# Altium integrated library Xilinx CoolRunner II.IntLib: 198 symbols (part 2 of 13)
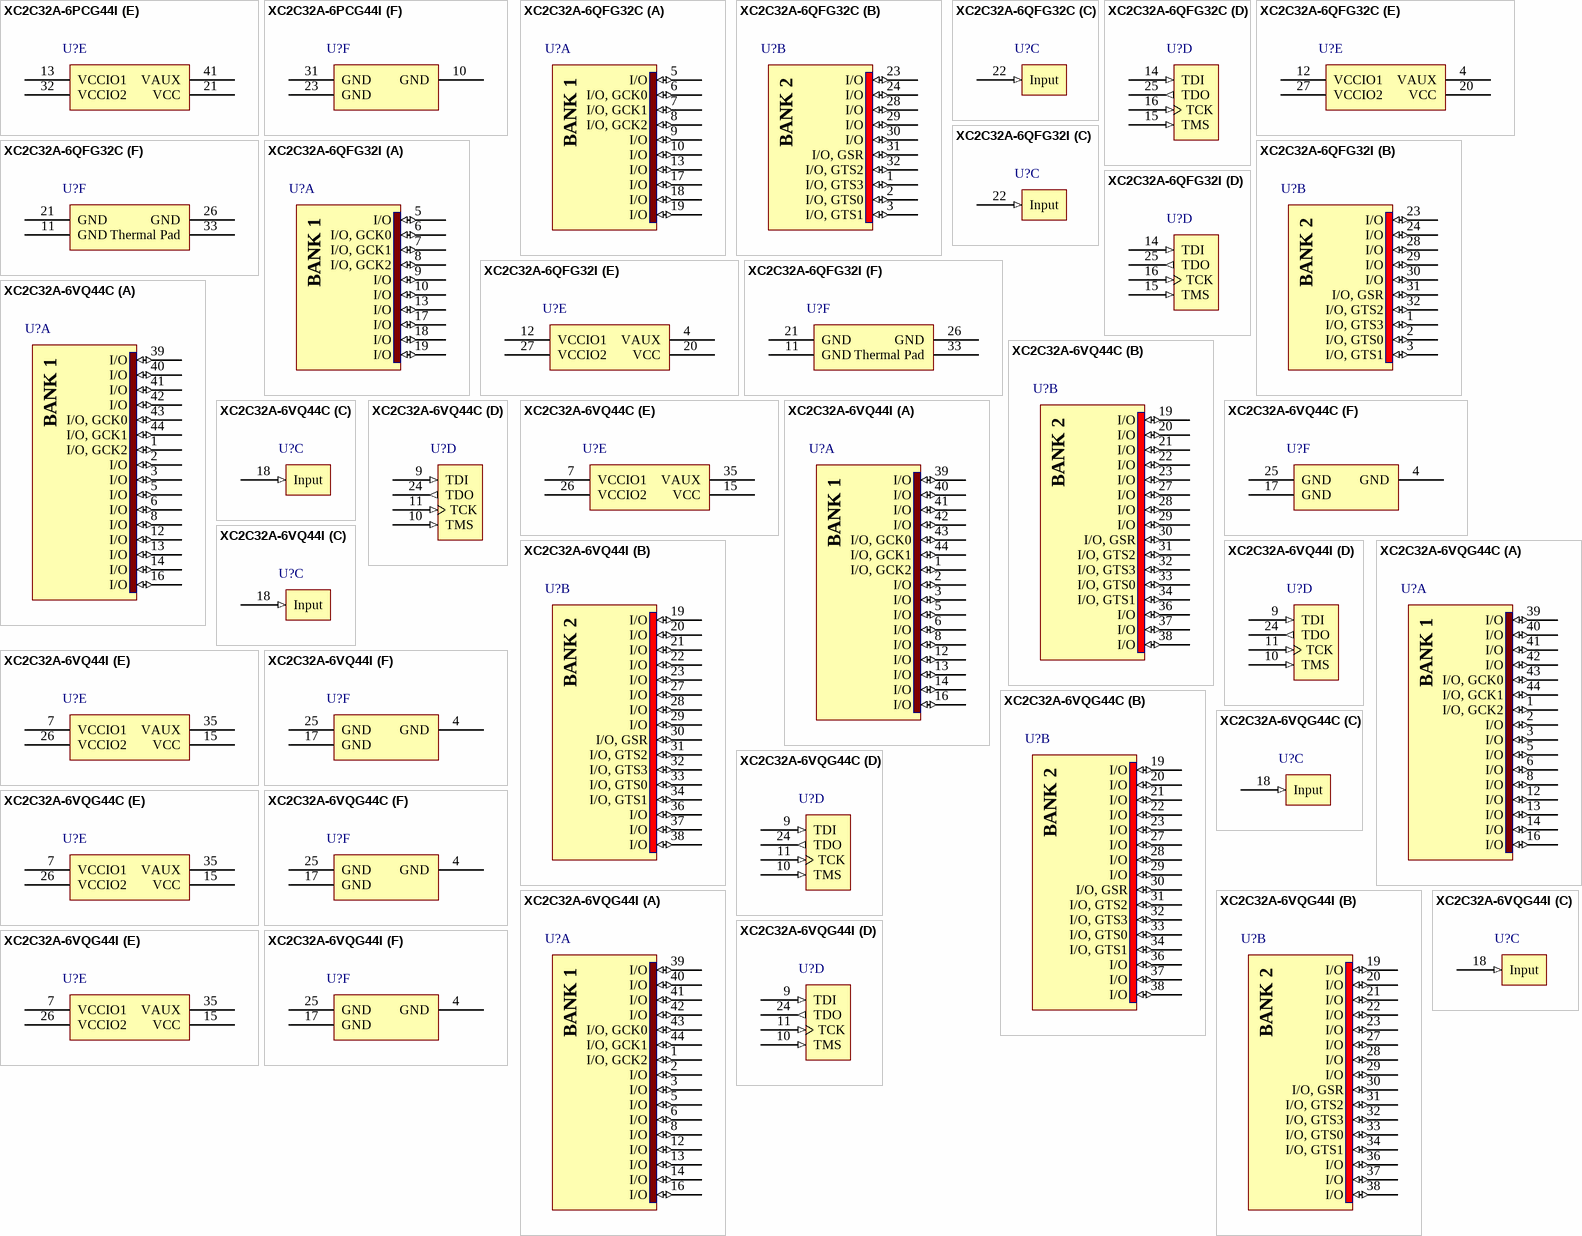
[diagram p70: symbols XC2C32A-6PCG44I to XC2C32A-6VQG44I]

## XC2C32A-6PCG44I
designator U?
CoolRunner-II, 1.8V, 32 Macrocell CPLD, 44-Pin PLCC, Pb-Free, Industrial Grade; Published: 4-Mar-2005; LatestRevisionDate: 13-Apr-2006; LatestRevisionNote: IPC-7351 Footprint Added.; DatasheetVersion: ver2.0, Mar-2007; PackageVersion: ver1.2, Jun-2004; PackageReference: PCG44; Publisher: Altium Limited; PackageDescription: 44-Pin Plastic Leaded Chip Carrier (PCG44) - Pb-Free; Code_JEDEC: MS-047; Code_IPC: PLCC-44; ComponentLink1Description: Manufacturer Link; ComponentLink1URL: http://www.xilinx.com/products/silicon_solutions/cplds/coolrunner_series/coolrunner_ii_cplds/overview.htm; ComponentLink2Description: Datasheet; ComponentLink2URL: http://direct.xilinx.com/bvdocs/publications/ds310.pdf
footprint PCG44_N (Leaded Chip Carrier, 44-Leads, Body 16.6x16.6mm, Pitch 1.27mm, IPC Medium Density)
footprint PCG44_L (Leaded Chip Carrier, 44-Leads, Body 16.6x16.6mm, Pitch 1.27mm, IPC High Density)
footprint PCG44_M (Leaded Chip Carrier, 44-Leads, Body 16.6x16.6mm, Pitch 1.27mm, IPC Low Density)
3D model XC2C32A-PC44 (44-Pin Plastic Leaded Chip Carrier (PCG44) - Pb-Free)
signal-integrity model XC2C32_PC44 (CoolRunner-II)
part A pins: 1 I/O (io), 2 I/O (io), 3 I/O (io), 4 I/O (io), 5 I/O, GCK0 (io), 6 I/O, GCK1 (io), 7 I/O, GCK2 (io), 8 I/O (io), 9 I/O (io), 11 I/O (io), 12 I/O (io), 14 I/O (io), 18 I/O (io), 19 I/O (io), 20 I/O (io), 22 I/O (io)
part B pins: 25 I/O (io), 26 I/O (io), 27 I/O (io), 28 I/O (io), 29 I/O (io), 33 I/O (io), 34 I/O (io), 35 I/O (io), 36 I/O, GSR (io), 37 I/O, GTS2 (io), 38 I/O, GTS3 (io), 39 I/O, GTS0 (io), 40 I/O, GTS1 (io), 42 I/O (io), 43 I/O (io), 44 I/O (io)
part C pins: 24 Input (in)
part D pins: 15 TDI (in), 16 TMS (in), 17 TCK (in), 30 TDO (out)
part E pins: 13 VCCIO1 (power), 21 VCC (power), 32 VCCIO2 (power), 41 VAUX (power)
part F pins: 10 GND (power), 23 GND (power), 31 GND (power)
part A text: BANK 1
part B text: BANK 2

## XC2C32A-6QFG32C
designator U?
CoolRunner-II, 1.8V, 32 Macrocell CPLD, 32-Pin QFNL, Pb-Free, Commercial Grade; Published: 8-Jul-2005; LatestRevisionDate: 13-Apr-2006; LatestRevisionNote: Added Thermal Pad pin. IPC-7351 Footprint Added.; DatasheetVersion: ver2.0, Mar-2007; PackageVersion: ver1.0, Aug-2004; PackageReference: QFG32; Publisher: Altium Limited; PackageDescription: 32-Pin Quad Flat No-Lead (QFG32) - Pb-Free; Code_JEDEC: MO-220; ComponentLink1Description: Manufacturer Link; ComponentLink1URL: http://www.xilinx.com/products/silicon_solutions/cplds/coolrunner_series/coolrunner_ii_cplds/overview.htm; ComponentLink2Description: Datasheet; ComponentLink2URL: http://direct.xilinx.com/bvdocs/publications/ds310.pdf
footprint QFG32_N (QFN, 32-Leads, Body 5x5mm, Pitch 0.5mm, IPC Medium Density)
footprint QFG32_L (QFN, 32-Leads, Body 5x5mm, Pitch 0.5mm, IPC High Density)
footprint QFG32_M (QFN, 32-Leads, Body 5x5mm, Pitch 0.5mm, IPC Low Density)
signal-integrity model XC2C32_QF32 (CoolRunner-II)
part A pins: 5 I/O (io), 6 I/O, GCK0 (io), 7 I/O, GCK1 (io), 8 I/O, GCK2 (io), 9 I/O (io), 10 I/O (io), 13 I/O (io), 17 I/O (io), 18 I/O (io), 19 I/O (io)
part B pins: 1 I/O, GTS3 (io), 2 I/O, GTS0 (io), 3 I/O, GTS1 (io), 23 I/O (io), 24 I/O (io), 28 I/O (io), 29 I/O (io), 30 I/O (io), 31 I/O, GSR (io), 32 I/O, GTS2 (io)
part C pins: 22 Input (in)
part D pins: 14 TDI (in), 15 TMS (in), 16 TCK (in), 25 TDO (out)
part E pins: 4 VAUX (power), 12 VCCIO1 (power), 20 VCC (power), 27 VCCIO2 (power)
part F pins: 11 GND (power), 21 GND (power), 26 GND (power), 33 Thermal Pad (power)
part A text: BANK 1
part B text: BANK 2

## XC2C32A-6QFG32I
designator U?
CoolRunner-II, 1.8V, 32 Macrocell CPLD, 32-Pin QFNL, Pb-Free, Industrial Grade; Published: 8-Jul-2005; LatestRevisionDate: 13-Apr-2006; LatestRevisionNote: Added Thermal Pad pin. IPC-7351 Footprint Added.; DatasheetVersion: ver2.0, Mar-2007; PackageVersion: ver1.0, Aug-2004; PackageReference: QFG32; Publisher: Altium Limited; PackageDescription: 32-Pin Quad Flat No-Lead (QFG32) - Pb-Free; Code_JEDEC: MO-220; ComponentLink1Description: Manufacturer Link; ComponentLink1URL: http://www.xilinx.com/products/silicon_solutions/cplds/coolrunner_series/coolrunner_ii_cplds/overview.htm; ComponentLink2Description: Datasheet; ComponentLink2URL: http://direct.xilinx.com/bvdocs/publications/ds310.pdf
footprint QFG32_N (QFN, 32-Leads, Body 5x5mm, Pitch 0.5mm, IPC Medium Density)
footprint QFG32_L (QFN, 32-Leads, Body 5x5mm, Pitch 0.5mm, IPC High Density)
footprint QFG32_M (QFN, 32-Leads, Body 5x5mm, Pitch 0.5mm, IPC Low Density)
signal-integrity model XC2C32_QF32 (CoolRunner-II)
part A pins: 5 I/O (io), 6 I/O, GCK0 (io), 7 I/O, GCK1 (io), 8 I/O, GCK2 (io), 9 I/O (io), 10 I/O (io), 13 I/O (io), 17 I/O (io), 18 I/O (io), 19 I/O (io)
part B pins: 1 I/O, GTS3 (io), 2 I/O, GTS0 (io), 3 I/O, GTS1 (io), 23 I/O (io), 24 I/O (io), 28 I/O (io), 29 I/O (io), 30 I/O (io), 31 I/O, GSR (io), 32 I/O, GTS2 (io)
part C pins: 22 Input (in)
part D pins: 14 TDI (in), 15 TMS (in), 16 TCK (in), 25 TDO (out)
part E pins: 4 VAUX (power), 12 VCCIO1 (power), 20 VCC (power), 27 VCCIO2 (power)
part F pins: 11 GND (power), 21 GND (power), 26 GND (power), 33 Thermal Pad (power)
part A text: BANK 1
part B text: BANK 2

## XC2C32A-6VQ44C
designator U?
CoolRunner-II, 1.8V, 32 Macrocell CPLD, 44-Pin VQFP, Commercial Grade; Published: 4-Mar-2005; LatestRevisionDate: 13-Apr-2006; LatestRevisionNote: IPC-7351 Footprint Added.; DatasheetVersion: ver2.0, Mar-2007; PackageVersion: ver1.2, Jun-2004; PackageReference: VQ44; Publisher: Altium Limited; PackageDescription: 44-Pin Very Thin Quad Flat Pack (VQ44); Code_JEDEC: MS-026-ACB; ComponentLink1Description: Manufacturer Link; ComponentLink1URL: http://www.xilinx.com/products/silicon_solutions/cplds/coolrunner_series/coolrunner_ii_cplds/overview.htm; ComponentLink2Description: Datasheet; ComponentLink2URL: http://direct.xilinx.com/bvdocs/publications/ds310.pdf
footprint VQ44_N (Thin QFP, 44-Leads, Body 10x10mm, Pitch 0.8mm, IPC Medium Density)
footprint VQ44_L (Thin QFP, 44-Leads, Body 10x10mm, Pitch 0.8mm, IPC High Density)
footprint VQ44_M (Thin QFP, 44-Leads, Body 10x10mm, Pitch 0.8mm, IPC Low Density)
3D model XC2C32A-VQ44 (44-Pin Very Thin Quad Flat Pack (VQ44))
signal-integrity model XC2C32_VQ44 (CoolRunner-II)
part A pins: 1 I/O, GCK2 (io), 2 I/O (io), 3 I/O (io), 5 I/O (io), 6 I/O (io), 8 I/O (io), 12 I/O (io), 13 I/O (io), 14 I/O (io), 16 I/O (io), 39 I/O (io), 40 I/O (io), 41 I/O (io), 42 I/O (io), 43 I/O, GCK0 (io), 44 I/O, GCK1 (io)
part B pins: 19 I/O (io), 20 I/O (io), 21 I/O (io), 22 I/O (io), 23 I/O (io), 27 I/O (io), 28 I/O (io), 29 I/O (io), 30 I/O, GSR (io), 31 I/O, GTS2 (io), 32 I/O, GTS3 (io), 33 I/O, GTS0 (io), 34 I/O, GTS1 (io), 36 I/O (io), 37 I/O (io), 38 I/O (io)
part C pins: 18 Input (in)
part D pins: 9 TDI (in), 10 TMS (in), 11 TCK (in), 24 TDO (out)
part E pins: 7 VCCIO1 (power), 15 VCC (power), 26 VCCIO2 (power), 35 VAUX (power)
part F pins: 4 GND (power), 17 GND (power), 25 GND (power)
part A text: BANK 1
part B text: BANK 2

## XC2C32A-6VQ44I
designator U?
CoolRunner-II, 1.8V, 32 Macrocell CPLD, 44-Pin VQFP, Industrial Grade; Published: 4-Mar-2005; LatestRevisionDate: 13-Apr-2006; LatestRevisionNote: IPC-7351 Footprint Added.; DatasheetVersion: ver2.0, Mar-2007; PackageVersion: ver1.2, Jun-2004; PackageReference: VQ44; Publisher: Altium Limited; PackageDescription: 44-Pin Very Thin Quad Flat Pack (VQ44); Code_JEDEC: MS-026-ACB; ComponentLink1Description: Manufacturer Link; ComponentLink1URL: http://www.xilinx.com/products/silicon_solutions/cplds/coolrunner_series/coolrunner_ii_cplds/overview.htm; ComponentLink2Description: Datasheet; ComponentLink2URL: http://direct.xilinx.com/bvdocs/publications/ds310.pdf
footprint VQ44_N (Thin QFP, 44-Leads, Body 10x10mm, Pitch 0.8mm, IPC Medium Density)
footprint VQ44_L (Thin QFP, 44-Leads, Body 10x10mm, Pitch 0.8mm, IPC High Density)
footprint VQ44_M (Thin QFP, 44-Leads, Body 10x10mm, Pitch 0.8mm, IPC Low Density)
3D model XC2C32A-VQ44 (44-Pin Very Thin Quad Flat Pack (VQ44))
signal-integrity model XC2C32_VQ44 (CoolRunner-II)
part A pins: 1 I/O, GCK2 (io), 2 I/O (io), 3 I/O (io), 5 I/O (io), 6 I/O (io), 8 I/O (io), 12 I/O (io), 13 I/O (io), 14 I/O (io), 16 I/O (io), 39 I/O (io), 40 I/O (io), 41 I/O (io), 42 I/O (io), 43 I/O, GCK0 (io), 44 I/O, GCK1 (io)
part B pins: 19 I/O (io), 20 I/O (io), 21 I/O (io), 22 I/O (io), 23 I/O (io), 27 I/O (io), 28 I/O (io), 29 I/O (io), 30 I/O, GSR (io), 31 I/O, GTS2 (io), 32 I/O, GTS3 (io), 33 I/O, GTS0 (io), 34 I/O, GTS1 (io), 36 I/O (io), 37 I/O (io), 38 I/O (io)
part C pins: 18 Input (in)
part D pins: 9 TDI (in), 10 TMS (in), 11 TCK (in), 24 TDO (out)
part E pins: 7 VCCIO1 (power), 15 VCC (power), 26 VCCIO2 (power), 35 VAUX (power)
part F pins: 4 GND (power), 17 GND (power), 25 GND (power)
part A text: BANK 1
part B text: BANK 2

## XC2C32A-6VQG44C
designator U?
CoolRunner-II, 1.8V, 32 Macrocell CPLD, 44-Pin VQFP, Pb-Free, Commercial Grade; Published: 4-Mar-2005; LatestRevisionDate: 13-Apr-2006; LatestRevisionNote: IPC-7351 Footprint Added.; DatasheetVersion: ver2.0, Mar-2007; PackageVersion: ver1.2, Jun-2004; PackageReference: VQG44; Publisher: Altium Limited; PackageDescription: 44-Pin Very Thin Quad Flat Pack (VQG44) - Pb-Free; Code_JEDEC: MS-026-ACB; ComponentLink1Description: Manufacturer Link; ComponentLink1URL: http://www.xilinx.com/products/silicon_solutions/cplds/coolrunner_series/coolrunner_ii_cplds/overview.htm; ComponentLink2Description: Datasheet; ComponentLink2URL: http://direct.xilinx.com/bvdocs/publications/ds310.pdf
footprint VQG44_N (Thin QFP, 44-Leads, Body 10x10mm, Pitch 0.8mm, IPC Medium Density)
footprint VQG44_L (Thin QFP, 44-Leads, Body 10x10mm, Pitch 0.8mm, IPC High Density)
footprint VQG44_M (Thin QFP, 44-Leads, Body 10x10mm, Pitch 0.8mm, IPC Low Density)
3D model XC2C32A-VQ44 (44-Pin Very Thin Quad Flat Pack (VQG44) - Pb-Free)
signal-integrity model XC2C32_VQ44 (CoolRunner-II)
part A pins: 1 I/O, GCK2 (io), 2 I/O (io), 3 I/O (io), 5 I/O (io), 6 I/O (io), 8 I/O (io), 12 I/O (io), 13 I/O (io), 14 I/O (io), 16 I/O (io), 39 I/O (io), 40 I/O (io), 41 I/O (io), 42 I/O (io), 43 I/O, GCK0 (io), 44 I/O, GCK1 (io)
part B pins: 19 I/O (io), 20 I/O (io), 21 I/O (io), 22 I/O (io), 23 I/O (io), 27 I/O (io), 28 I/O (io), 29 I/O (io), 30 I/O, GSR (io), 31 I/O, GTS2 (io), 32 I/O, GTS3 (io), 33 I/O, GTS0 (io), 34 I/O, GTS1 (io), 36 I/O (io), 37 I/O (io), 38 I/O (io)
part C pins: 18 Input (in)
part D pins: 9 TDI (in), 10 TMS (in), 11 TCK (in), 24 TDO (out)
part E pins: 7 VCCIO1 (power), 15 VCC (power), 26 VCCIO2 (power), 35 VAUX (power)
part F pins: 4 GND (power), 17 GND (power), 25 GND (power)
part A text: BANK 1
part B text: BANK 2

## XC2C32A-6VQG44I
designator U?
CoolRunner-II, 1.8V, 32 Macrocell CPLD, 44-Pin VQFP, Pb-Free, Industrial Grade; Published: 4-Mar-2005; LatestRevisionDate: 13-Apr-2006; LatestRevisionNote: IPC-7351 Footprint Added.; DatasheetVersion: ver2.0, Mar-2007; PackageVersion: ver1.2, Jun-2004; PackageReference: VQG44; Publisher: Altium Limited; PackageDescription: 44-Pin Very Thin Quad Flat Pack (VQG44) - Pb-Free; Code_JEDEC: MS-026-ACB; ComponentLink1Description: Manufacturer Link; ComponentLink1URL: http://www.xilinx.com/products/silicon_solutions/cplds/coolrunner_series/coolrunner_ii_cplds/overview.htm; ComponentLink2Description: Datasheet; ComponentLink2URL: http://direct.xilinx.com/bvdocs/publications/ds310.pdf
footprint VQG44_N (Thin QFP, 44-Leads, Body 10x10mm, Pitch 0.8mm, IPC Medium Density)
footprint VQG44_L (Thin QFP, 44-Leads, Body 10x10mm, Pitch 0.8mm, IPC High Density)
footprint VQG44_M (Thin QFP, 44-Leads, Body 10x10mm, Pitch 0.8mm, IPC Low Density)
3D model XC2C32A-VQ44 (44-Pin Very Thin Quad Flat Pack (VQG44) - Pb-Free)
signal-integrity model XC2C32_VQ44 (CoolRunner-II)
part A pins: 1 I/O, GCK2 (io), 2 I/O (io), 3 I/O (io), 5 I/O (io), 6 I/O (io), 8 I/O (io), 12 I/O (io), 13 I/O (io), 14 I/O (io), 16 I/O (io), 39 I/O (io), 40 I/O (io), 41 I/O (io), 42 I/O (io), 43 I/O, GCK0 (io), 44 I/O, GCK1 (io)
part B pins: 19 I/O (io), 20 I/O (io), 21 I/O (io), 22 I/O (io), 23 I/O (io), 27 I/O (io), 28 I/O (io), 29 I/O (io), 30 I/O, GSR (io), 31 I/O, GTS2 (io), 32 I/O, GTS3 (io), 33 I/O, GTS0 (io), 34 I/O, GTS1 (io), 36 I/O (io), 37 I/O (io), 38 I/O (io)
part C pins: 18 Input (in)
part D pins: 9 TDI (in), 10 TMS (in), 11 TCK (in), 24 TDO (out)
part E pins: 7 VCCIO1 (power), 15 VCC (power), 26 VCCIO2 (power), 35 VAUX (power)
part F pins: 4 GND (power), 17 GND (power), 25 GND (power)
part A text: BANK 1
part B text: BANK 2

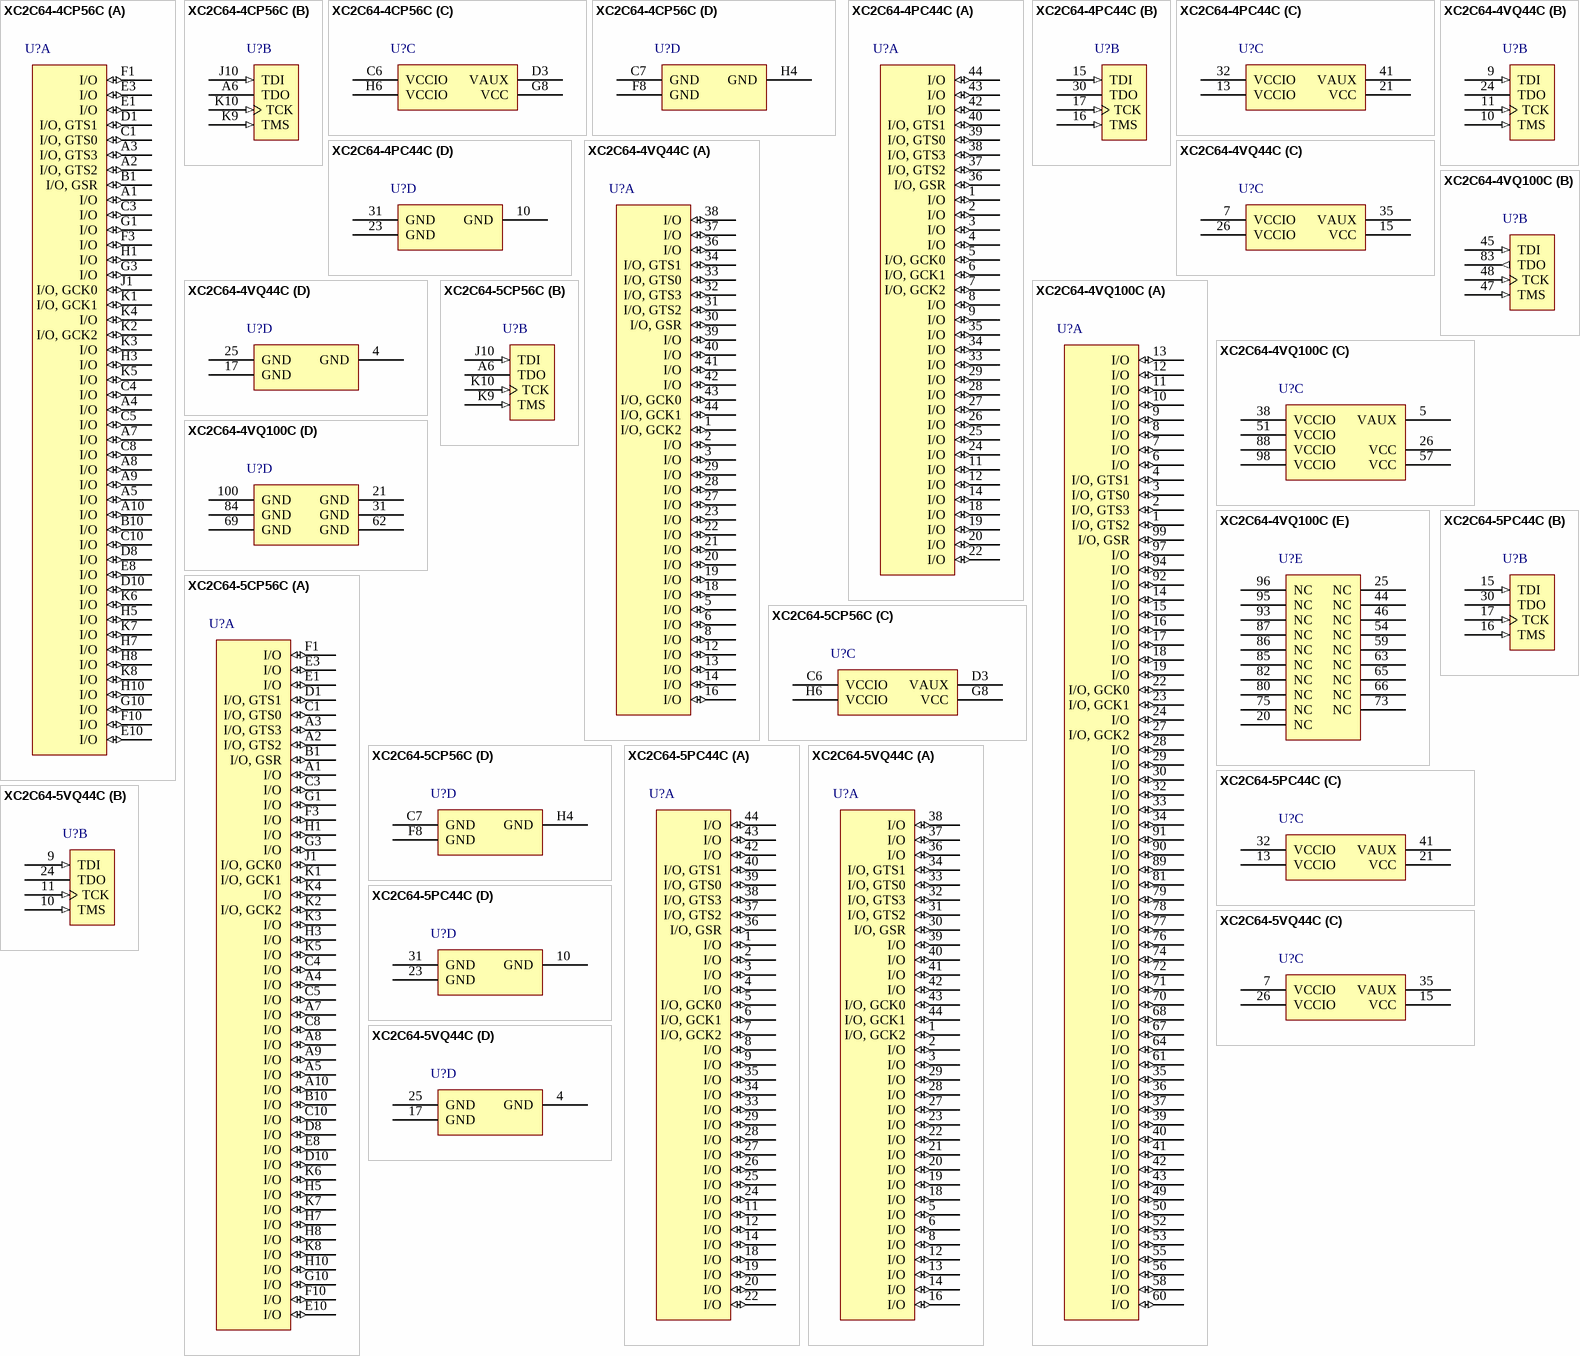
[diagram p5: symbols XC2C64-4CP56C to XC2C64-5VQ44C]

## XC2C64-4CP56C
designator U?
CoolRunner-II, 1.8V, 64 Macrocell CPLD, 56-Ball CSP, Commercial Grade; ComponentAvailability: Not referenced in latest datasheet.; Published: 23-Sep-2002; LatestRevisionDate: 13-Apr-2006; LatestRevisionNote: IPC-7351 Footprint Added.; DatasheetVersion: ver1.5, Jan-2004; PackageVersion: ver1.2, Jun-2004; PackageReference: CP56; Publisher: Altium Limited; PackageDescription: 56-Ball Chip Scale Ball Grid Array 0.5 mm Pitch (CP56); ComponentLink1Description: Manufacturer Link; ComponentLink1URL: http://www.xilinx.com/products/silicon_solutions/cplds/coolrunner_series/coolrunner_ii_cplds/overview.htm; ComponentLink2Description: Datasheet; ComponentLink2URL: http://direct.xilinx.com/bvdocs/publications/ds092.pdf; ComponentLink3Description: Discontinuation Notice; ComponentLink3URL: http://www.xilinx.com/bvdocs/notifications/xcn05017.pdf
footprint CP56 (BGA, 56-Leads, Body 6x6mm, Pitch 0.5mm)
3D model XC2C64-CP56 (56-Ball Chip Scale Ball Grid Array 0.5 mm Pitch (CP56))
signal-integrity model XC2C64_CP56 (CoolRunner-II)
part A pins: A1 I/O (io), A2 I/O, GTS2 (io), A3 I/O, GTS3 (io), A4 I/O (io), A5 I/O (io), A7 I/O (io), A8 I/O (io), A9 I/O (io), A10 I/O (io), B1 I/O, GSR (io), B10 I/O (io), C1 I/O, GTS0 (io), C3 I/O (io), C4 I/O (io), C5 I/O (io), C8 I/O (io), C10 I/O (io), D1 I/O, GTS1 (io), D8 I/O (io), D10 I/O (io), E1 I/O (io), E3 I/O (io), E8 I/O (io), E10 I/O (io), F1 I/O (io), F3 I/O (io), F10 I/O (io), G1 I/O (io), G3 I/O (io), G10 I/O (io), H1 I/O (io), H3 I/O (io), H5 I/O (io), H7 I/O (io), H8 I/O (io), H10 I/O (io), J1 I/O, GCK0 (io), K1 I/O, GCK1 (io), K2 I/O, GCK2 (io), K3 I/O (io), K4 I/O (io), K5 I/O (io), K6 I/O (io), K7 I/O (io), K8 I/O (io)
part B pins: A6 TDO, J10 TDI (in), K9 TMS (in), K10 TCK (in)
part C pins: C6 VCCIO (power), D3 VAUX (power), G8 VCC (power), H6 VCCIO (power)
part D pins: C7 GND (power), F8 GND (power), H4 GND (power)

## XC2C64-4PC44C
designator U?
CoolRunner-II, 1.8V, 64 Macrocell CPLD, 44-Pin PLCC, Commercial Grade; ComponentAvailability: Not referenced in latest datasheet.; Published: 23-Sep-2002; LatestRevisionDate: 13-Apr-2006; LatestRevisionNote: IPC-7351 Footprint Added.; DatasheetVersion: ver1.5, Jan-2004; PackageVersion: ver1.2, Jun-2004; PackageReference: PC44; Publisher: Altium Limited; PackageDescription: 44-Pin Plastic Leaded Chip Carrier (PC44); Code_JEDEC: MS-047; Code_IPC: PLCC-44; ComponentLink1Description: Manufacturer Link; ComponentLink1URL: http://www.xilinx.com/products/silicon_solutions/cplds/coolrunner_series/coolrunner_ii_cplds/overview.htm; ComponentLink2Description: Datasheet; ComponentLink2URL: http://direct.xilinx.com/bvdocs/publications/ds092.pdf; ComponentLink3Description: Discontinuation Notice; ComponentLink3URL: http://www.xilinx.com/bvdocs/notifications/xcn05017.pdf
footprint PC44_N (Leaded Chip Carrier, 44-Leads, Body 16.6x16.6mm, Pitch 1.27mm, IPC Medium Density)
footprint PC44_L (Leaded Chip Carrier, 44-Leads, Body 16.6x16.6mm, Pitch 1.27mm, IPC High Density)
footprint PC44_M (Leaded Chip Carrier, 44-Leads, Body 16.6x16.6mm, Pitch 1.27mm, IPC Low Density)
3D model XC2C64-PC44 (44-Pin Plastic Leaded Chip Carrier (PC44))
signal-integrity model XC2C64_PC44 (CoolRunner-II)
part A pins: 1 I/O (io), 2 I/O (io), 3 I/O (io), 4 I/O (io), 5 I/O, GCK0 (io), 6 I/O, GCK1 (io), 7 I/O, GCK2 (io), 8 I/O (io), 9 I/O (io), 11 I/O (io), 12 I/O (io), 14 I/O (io), 18 I/O (io), 19 I/O (io), 20 I/O (io), 22 I/O (io), 24 I/O (io), 25 I/O (io), 26 I/O (io), 27 I/O (io), 28 I/O (io), 29 I/O (io), 33 I/O (io), 34 I/O (io), 35 I/O (io), 36 I/O, GSR (io), 37 I/O, GTS2 (io), 38 I/O, GTS3 (io), 39 I/O, GTS0 (io), 40 I/O, GTS1 (io), 42 I/O (io), 43 I/O (io), 44 I/O (io)
part B pins: 15 TDI (in), 16 TMS (in), 17 TCK (in), 30 TDO
part C pins: 13 VCCIO (power), 21 VCC (power), 32 VCCIO (power), 41 VAUX (power)
part D pins: 10 GND (power), 23 GND (power), 31 GND (power)

## XC2C64-4VQ44C
designator U?
CoolRunner-II, 1.8V, 64 Macrocell CPLD, 44-Pin VQFP, Commercial Grade; ComponentAvailability: Not referenced in latest datasheet.; Published: 23-Sep-2002; LatestRevisionDate: 13-Apr-2006; LatestRevisionNote: IPC-7351 Footprint Added.; DatasheetVersion: ver1.5, Jan-2004; PackageVersion: ver1.2, Jun-2004; PackageReference: VQ44; Publisher: Altium Limited; PackageDescription: 44-Pin Very Thin Quad Flat Pack (VQ44); Code_JEDEC: MS-026-ACB; ComponentLink1Description: Manufacturer Link; ComponentLink1URL: http://www.xilinx.com/products/silicon_solutions/cplds/coolrunner_series/coolrunner_ii_cplds/overview.htm; ComponentLink2Description: Datasheet; ComponentLink2URL: http://direct.xilinx.com/bvdocs/publications/ds092.pdf; ComponentLink3Description: Discontinuation Notice; ComponentLink3URL: http://www.xilinx.com/bvdocs/notifications/xcn05017.pdf
footprint VQ44_N (Thin QFP, 44-Leads, Body 10x10mm, Pitch 0.8mm, IPC Medium Density)
footprint VQ44_L (Thin QFP, 44-Leads, Body 10x10mm, Pitch 0.8mm, IPC High Density)
footprint VQ44_M (Thin QFP, 44-Leads, Body 10x10mm, Pitch 0.8mm, IPC Low Density)
3D model XC2C64-VQ44 (44-Pin Very Thin Quad Flat Pack (VQ44))
signal-integrity model XC2C64_VQ44 (CoolRunner-II)
part A pins: 1 I/O, GCK2 (io), 2 I/O (io), 3 I/O (io), 5 I/O (io), 6 I/O (io), 8 I/O (io), 12 I/O (io), 13 I/O (io), 14 I/O (io), 16 I/O (io), 18 I/O (io), 19 I/O (io), 20 I/O (io), 21 I/O (io), 22 I/O (io), 23 I/O (io), 27 I/O (io), 28 I/O (io), 29 I/O (io), 30 I/O, GSR (io), 31 I/O, GTS2 (io), 32 I/O, GTS3 (io), 33 I/O, GTS0 (io), 34 I/O, GTS1 (io), 36 I/O (io), 37 I/O (io), 38 I/O (io), 39 I/O (io), 40 I/O (io), 41 I/O (io), 42 I/O (io), 43 I/O, GCK0 (io), 44 I/O, GCK1 (io)
part B pins: 9 TDI (in), 10 TMS (in), 11 TCK (in), 24 TDO
part C pins: 7 VCCIO (power), 15 VCC (power), 26 VCCIO (power), 35 VAUX (power)
part D pins: 4 GND (power), 17 GND (power), 25 GND (power)

## XC2C64-4VQ100C
designator U?
CoolRunner-II, 1.8V, 64 Macrocell CPLD, 100-Pin VQFP, Commercial Grade; ComponentAvailability: Not referenced in latest datasheet.; Published: 23-Sep-2002; LatestRevisionDate: 13-Apr-2006; LatestRevisionNote: IPC-7351 Footprint Added.; DatasheetVersion: ver1.5, Jan-2004; PackageVersion: ver1.2.1, Feb-2007; PackageReference: VQ100; Publisher: Altium Limited; PackageDescription: 100-Pin Very Thin Quad Flat Pack (VQ100); Code_JEDEC: MS-026-AED; ComponentLink1Description: Manufacturer Link; ComponentLink1URL: http://www.xilinx.com/products/silicon_solutions/cplds/coolrunner_series/coolrunner_ii_cplds/overview.htm; ComponentLink2Description: Datasheet; ComponentLink2URL: http://direct.xilinx.com/bvdocs/publications/ds092.pdf; ComponentLink3Description: Discontinuation Notice; ComponentLink3URL: http://www.xilinx.com/bvdocs/notifications/xcn05017.pdf
footprint VQ100_N (Thin QFP, 100-Leads, Body 14x14mm, Pitch 0.5mm, IPC Medium Density)
footprint VQ100_L (Thin QFP, 100-Leads, Body 14x14mm, Pitch 0.5mm, IPC High Density)
footprint VQ100_M (Thin QFP, 100-Leads, Body 14x14mm, Pitch 0.5mm, IPC Low Density)
3D model XC2C64-VQ100 (100-Pin Very Thin Quad Flat Pack (VQ100))
signal-integrity model XC2C64_VQ100 (CoolRunner-II)
part A pins: 1 I/O, GTS2 (io), 2 I/O, GTS3 (io), 3 I/O, GTS0 (io), 4 I/O, GTS1 (io), 6 I/O (io), 7 I/O (io), 8 I/O (io), 9 I/O (io), 10 I/O (io), 11 I/O (io), 12 I/O (io), 13 I/O (io), 14 I/O (io), 15 I/O (io), 16 I/O (io), 17 I/O (io), 18 I/O (io), 19 I/O (io), 22 I/O, GCK0 (io), 23 I/O, GCK1 (io), 24 I/O (io), 27 I/O, GCK2 (io), 28 I/O (io), 29 I/O (io), 30 I/O (io), 32 I/O (io), 33 I/O (io), 34 I/O (io), 35 I/O (io), 36 I/O (io), 37 I/O (io), 39 I/O (io), 40 I/O (io), 41 I/O (io), 42 I/O (io), 43 I/O (io), 49 I/O (io), 50 I/O (io), 52 I/O (io), 53 I/O (io), 55 I/O (io), 56 I/O (io), 58 I/O (io), 60 I/O (io), 61 I/O (io), 64 I/O (io), 67 I/O (io), 68 I/O (io), 70 I/O (io), 71 I/O (io), 72 I/O (io), 74 I/O (io), 76 I/O (io), 77 I/O (io), 78 I/O (io), 79 I/O (io), 81 I/O (io), 89 I/O (io), 90 I/O (io), 91 I/O (io), 92 I/O (io), 94 I/O (io), 97 I/O (io), 99 I/O, GSR (io)
part B pins: 45 TDI (in), 47 TMS (in), 48 TCK (in), 83 TDO (out)
part C pins: 5 VAUX (power), 26 VCC (power), 38 VCCIO (power), 51 VCCIO (power), 57 VCC (power), 88 VCCIO (power), 98 VCCIO (power)
part D pins: 21 GND (power), 31 GND (power), 62 GND (power), 69 GND (power), 84 GND (power), 100 GND (power)
part E pins: 20 NC, 25 NC, 44 NC, 46 NC, 54 NC, 59 NC, 63 NC, 65 NC, 66 NC, 73 NC, 75 NC, 80 NC, 82 NC, 85 NC, 86 NC, 87 NC, 93 NC, 95 NC, 96 NC

## XC2C64-5CP56C
designator U?
CoolRunner-II, 1.8V, 64 Macrocell CPLD, 56-Ball CSP, Commercial Grade; ComponentAvailability: Discontinued After April 24 2006.; Published: 23-Sep-2002; LatestRevisionDate: 13-Apr-2006; LatestRevisionNote: IPC-7351 Footprint Added.; DatasheetVersion: ver3.0, Nov-2005; PackageVersion: ver1.2, Jun-2004; PackageReference: CP56; Publisher: Altium Limited; PackageDescription: 56-Ball Chip Scale Ball Grid Array 0.5 mm Pitch (CP56); ComponentLink1Description: Manufacturer Link; ComponentLink1URL: http://www.xilinx.com/products/silicon_solutions/cplds/coolrunner_series/coolrunner_ii_cplds/overview.htm; ComponentLink2Description: Datasheet; ComponentLink2URL: http://direct.xilinx.com/bvdocs/publications/ds092.pdf; ComponentLink3Description: Discontinuation Notice; ComponentLink3URL: http://www.xilinx.com/bvdocs/notifications/xcn05017.pdf
footprint CP56 (BGA, 56-Leads, Body 6x6mm, Pitch 0.5mm)
3D model XC2C64-CP56 (56-Ball Chip Scale Ball Grid Array 0.5 mm Pitch (CP56))
signal-integrity model XC2C64_CP56 (CoolRunner-II)
part A pins: A1 I/O (io), A2 I/O, GTS2 (io), A3 I/O, GTS3 (io), A4 I/O (io), A5 I/O (io), A7 I/O (io), A8 I/O (io), A9 I/O (io), A10 I/O (io), B1 I/O, GSR (io), B10 I/O (io), C1 I/O, GTS0 (io), C3 I/O (io), C4 I/O (io), C5 I/O (io), C8 I/O (io), C10 I/O (io), D1 I/O, GTS1 (io), D8 I/O (io), D10 I/O (io), E1 I/O (io), E3 I/O (io), E8 I/O (io), E10 I/O (io), F1 I/O (io), F3 I/O (io), F10 I/O (io), G1 I/O (io), G3 I/O (io), G10 I/O (io), H1 I/O (io), H3 I/O (io), H5 I/O (io), H7 I/O (io), H8 I/O (io), H10 I/O (io), J1 I/O, GCK0 (io), K1 I/O, GCK1 (io), K2 I/O, GCK2 (io), K3 I/O (io), K4 I/O (io), K5 I/O (io), K6 I/O (io), K7 I/O (io), K8 I/O (io)
part B pins: A6 TDO, J10 TDI (in), K9 TMS (in), K10 TCK (in)
part C pins: C6 VCCIO (power), D3 VAUX (power), G8 VCC (power), H6 VCCIO (power)
part D pins: C7 GND (power), F8 GND (power), H4 GND (power)

## XC2C64-5PC44C
designator U?
CoolRunner-II, 1.8V, 64 Macrocell CPLD, 44-Pin PLCC, Commercial Grade; ComponentAvailability: Discontinued After April 24 2006.; Published: 23-Sep-2002; LatestRevisionDate: 13-Apr-2006; LatestRevisionNote: IPC-7351 Footprint Added.; DatasheetVersion: ver3.0, Nov-2005; PackageVersion: ver1.2, Jun-2004; PackageReference: PC44; Publisher: Altium Limited; PackageDescription: 44-Pin Plastic Leaded Chip Carrier (PC44); Code_JEDEC: MS-047; Code_IPC: PLCC-44; ComponentLink1Description: Manufacturer Link; ComponentLink1URL: http://www.xilinx.com/products/silicon_solutions/cplds/coolrunner_series/coolrunner_ii_cplds/overview.htm; ComponentLink2Description: Datasheet; ComponentLink2URL: http://direct.xilinx.com/bvdocs/publications/ds092.pdf; ComponentLink3Description: Discontinuation Notice; ComponentLink3URL: http://www.xilinx.com/bvdocs/notifications/xcn05017.pdf
footprint PC44_N (Leaded Chip Carrier, 44-Leads, Body 16.6x16.6mm, Pitch 1.27mm, IPC Medium Density)
footprint PC44_L (Leaded Chip Carrier, 44-Leads, Body 16.6x16.6mm, Pitch 1.27mm, IPC High Density)
footprint PC44_M (Leaded Chip Carrier, 44-Leads, Body 16.6x16.6mm, Pitch 1.27mm, IPC Low Density)
3D model XC2C64-PC44 (44-Pin Plastic Leaded Chip Carrier (PC44))
signal-integrity model XC2C64_PC44 (CoolRunner-II)
part A pins: 1 I/O (io), 2 I/O (io), 3 I/O (io), 4 I/O (io), 5 I/O, GCK0 (io), 6 I/O, GCK1 (io), 7 I/O, GCK2 (io), 8 I/O (io), 9 I/O (io), 11 I/O (io), 12 I/O (io), 14 I/O (io), 18 I/O (io), 19 I/O (io), 20 I/O (io), 22 I/O (io), 24 I/O (io), 25 I/O (io), 26 I/O (io), 27 I/O (io), 28 I/O (io), 29 I/O (io), 33 I/O (io), 34 I/O (io), 35 I/O (io), 36 I/O, GSR (io), 37 I/O, GTS2 (io), 38 I/O, GTS3 (io), 39 I/O, GTS0 (io), 40 I/O, GTS1 (io), 42 I/O (io), 43 I/O (io), 44 I/O (io)
part B pins: 15 TDI (in), 16 TMS (in), 17 TCK (in), 30 TDO
part C pins: 13 VCCIO (power), 21 VCC (power), 32 VCCIO (power), 41 VAUX (power)
part D pins: 10 GND (power), 23 GND (power), 31 GND (power)

## XC2C64-5VQ44C
designator U?
CoolRunner-II, 1.8V, 64 Macrocell CPLD, 44-Pin VQFP, Commercial Grade; ComponentAvailability: Discontinued After April 24 2006.; Published: 23-Sep-2002; LatestRevisionDate: 13-Apr-2006; LatestRevisionNote: IPC-7351 Footprint Added.; DatasheetVersion: ver3.0, Nov-2005; PackageVersion: ver1.2, Jun-2004; PackageReference: VQ44; Publisher: Altium Limited; PackageDescription: 44-Pin Very Thin Quad Flat Pack (VQ44); Code_JEDEC: MS-026-ACB; ComponentLink1Description: Manufacturer Link; ComponentLink1URL: http://www.xilinx.com/products/silicon_solutions/cplds/coolrunner_series/coolrunner_ii_cplds/overview.htm; ComponentLink2Description: Datasheet; ComponentLink2URL: http://direct.xilinx.com/bvdocs/publications/ds092.pdf; ComponentLink3Description: Discontinuation Notice; ComponentLink3URL: http://www.xilinx.com/bvdocs/notifications/xcn05017.pdf
footprint VQ44_N (Thin QFP, 44-Leads, Body 10x10mm, Pitch 0.8mm, IPC Medium Density)
footprint VQ44_L (Thin QFP, 44-Leads, Body 10x10mm, Pitch 0.8mm, IPC High Density)
footprint VQ44_M (Thin QFP, 44-Leads, Body 10x10mm, Pitch 0.8mm, IPC Low Density)
3D model XC2C64-VQ44 (44-Pin Very Thin Quad Flat Pack (VQ44))
signal-integrity model XC2C64_VQ44 (CoolRunner-II)
part A pins: 1 I/O, GCK2 (io), 2 I/O (io), 3 I/O (io), 5 I/O (io), 6 I/O (io), 8 I/O (io), 12 I/O (io), 13 I/O (io), 14 I/O (io), 16 I/O (io), 18 I/O (io), 19 I/O (io), 20 I/O (io), 21 I/O (io), 22 I/O (io), 23 I/O (io), 27 I/O (io), 28 I/O (io), 29 I/O (io), 30 I/O, GSR (io), 31 I/O, GTS2 (io), 32 I/O, GTS3 (io), 33 I/O, GTS0 (io), 34 I/O, GTS1 (io), 36 I/O (io), 37 I/O (io), 38 I/O (io), 39 I/O (io), 40 I/O (io), 41 I/O (io), 42 I/O (io), 43 I/O, GCK0 (io), 44 I/O, GCK1 (io)
part B pins: 9 TDI (in), 10 TMS (in), 11 TCK (in), 24 TDO
part C pins: 7 VCCIO (power), 15 VCC (power), 26 VCCIO (power), 35 VAUX (power)
part D pins: 4 GND (power), 17 GND (power), 25 GND (power)

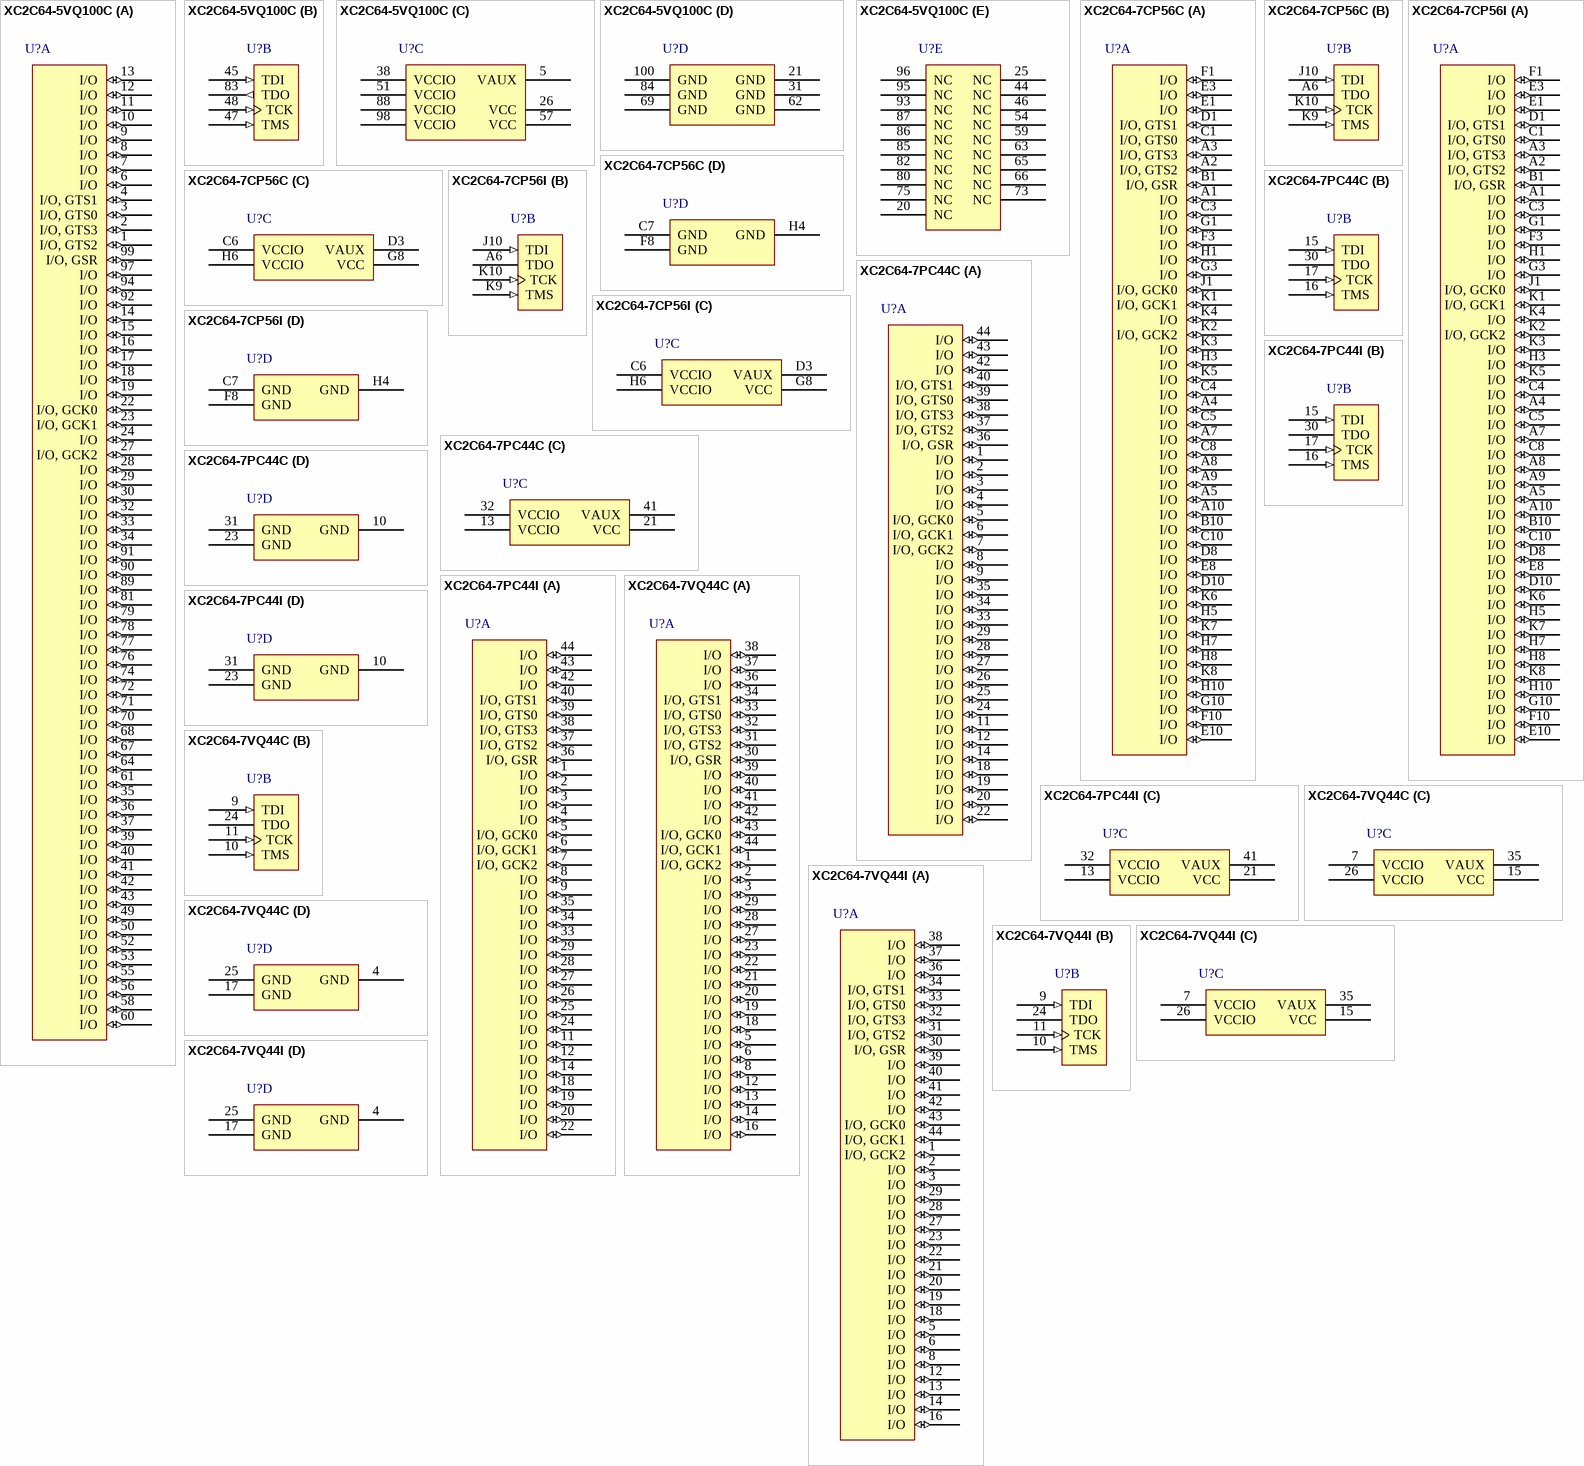
[diagram p6: symbols XC2C64-5VQ100C to XC2C64-7VQ44I]

## XC2C64-5VQ100C
designator U?
CoolRunner-II, 1.8V, 64 Macrocell CPLD, 100-Pin VQFP, Commercial Grade; ComponentAvailability: Discontinued After April 24 2006.; Published: 23-Sep-2002; LatestRevisionDate: 13-Apr-2006; LatestRevisionNote: IPC-7351 Footprint Added.; DatasheetVersion: ver3.0, Nov-2005; PackageVersion: ver1.2.1, Feb-2007; PackageReference: VQ100; Publisher: Altium Limited; PackageDescription: 100-Pin Very Thin Quad Flat Pack (VQ100); Code_JEDEC: MS-026-AED; ComponentLink1Description: Manufacturer Link; ComponentLink1URL: http://www.xilinx.com/products/silicon_solutions/cplds/coolrunner_series/coolrunner_ii_cplds/overview.htm; ComponentLink2Description: Datasheet; ComponentLink2URL: http://direct.xilinx.com/bvdocs/publications/ds092.pdf; ComponentLink3Description: Discontinuation Notice; ComponentLink3URL: http://www.xilinx.com/bvdocs/notifications/xcn05017.pdf
footprint VQ100_N (Thin QFP, 100-Leads, Body 14x14mm, Pitch 0.5mm, IPC Medium Density)
footprint VQ100_L (Thin QFP, 100-Leads, Body 14x14mm, Pitch 0.5mm, IPC High Density)
footprint VQ100_M (Thin QFP, 100-Leads, Body 14x14mm, Pitch 0.5mm, IPC Low Density)
3D model XC2C64-VQ100 (100-Pin Very Thin Quad Flat Pack (VQ100))
signal-integrity model XC2C64_VQ100 (CoolRunner-II)
part A pins: 1 I/O, GTS2 (io), 2 I/O, GTS3 (io), 3 I/O, GTS0 (io), 4 I/O, GTS1 (io), 6 I/O (io), 7 I/O (io), 8 I/O (io), 9 I/O (io), 10 I/O (io), 11 I/O (io), 12 I/O (io), 13 I/O (io), 14 I/O (io), 15 I/O (io), 16 I/O (io), 17 I/O (io), 18 I/O (io), 19 I/O (io), 22 I/O, GCK0 (io), 23 I/O, GCK1 (io), 24 I/O (io), 27 I/O, GCK2 (io), 28 I/O (io), 29 I/O (io), 30 I/O (io), 32 I/O (io), 33 I/O (io), 34 I/O (io), 35 I/O (io), 36 I/O (io), 37 I/O (io), 39 I/O (io), 40 I/O (io), 41 I/O (io), 42 I/O (io), 43 I/O (io), 49 I/O (io), 50 I/O (io), 52 I/O (io), 53 I/O (io), 55 I/O (io), 56 I/O (io), 58 I/O (io), 60 I/O (io), 61 I/O (io), 64 I/O (io), 67 I/O (io), 68 I/O (io), 70 I/O (io), 71 I/O (io), 72 I/O (io), 74 I/O (io), 76 I/O (io), 77 I/O (io), 78 I/O (io), 79 I/O (io), 81 I/O (io), 89 I/O (io), 90 I/O (io), 91 I/O (io), 92 I/O (io), 94 I/O (io), 97 I/O (io), 99 I/O, GSR (io)
part B pins: 45 TDI (in), 47 TMS (in), 48 TCK (in), 83 TDO (out)
part C pins: 5 VAUX (power), 26 VCC (power), 38 VCCIO (power), 51 VCCIO (power), 57 VCC (power), 88 VCCIO (power), 98 VCCIO (power)
part D pins: 21 GND (power), 31 GND (power), 62 GND (power), 69 GND (power), 84 GND (power), 100 GND (power)
part E pins: 20 NC, 25 NC, 44 NC, 46 NC, 54 NC, 59 NC, 63 NC, 65 NC, 66 NC, 73 NC, 75 NC, 80 NC, 82 NC, 85 NC, 86 NC, 87 NC, 93 NC, 95 NC, 96 NC

## XC2C64-7CP56C
designator U?
CoolRunner-II, 1.8V, 64 Macrocell CPLD, 56-Ball CSP, Commercial Grade; ComponentAvailability: Discontinued After April 24 2006.; Published: 23-Sep-2002; LatestRevisionDate: 13-Apr-2006; LatestRevisionNote: IPC-7351 Footprint Added.; DatasheetVersion: ver3.0, Nov-2005; PackageVersion: ver1.2, Jun-2004; PackageReference: CP56; Publisher: Altium Limited; PackageDescription: 56-Ball Chip Scale Ball Grid Array 0.5 mm Pitch (CP56); ComponentLink1Description: Manufacturer Link; ComponentLink1URL: http://www.xilinx.com/products/silicon_solutions/cplds/coolrunner_series/coolrunner_ii_cplds/overview.htm; ComponentLink2Description: Datasheet; ComponentLink2URL: http://direct.xilinx.com/bvdocs/publications/ds092.pdf; ComponentLink3Description: Discontinuation Notice; ComponentLink3URL: http://www.xilinx.com/bvdocs/notifications/xcn05017.pdf
footprint CP56 (BGA, 56-Leads, Body 6x6mm, Pitch 0.5mm)
3D model XC2C64-CP56 (56-Ball Chip Scale Ball Grid Array 0.5 mm Pitch (CP56))
signal-integrity model XC2C64_CP56 (CoolRunner-II)
part A pins: A1 I/O (io), A2 I/O, GTS2 (io), A3 I/O, GTS3 (io), A4 I/O (io), A5 I/O (io), A7 I/O (io), A8 I/O (io), A9 I/O (io), A10 I/O (io), B1 I/O, GSR (io), B10 I/O (io), C1 I/O, GTS0 (io), C3 I/O (io), C4 I/O (io), C5 I/O (io), C8 I/O (io), C10 I/O (io), D1 I/O, GTS1 (io), D8 I/O (io), D10 I/O (io), E1 I/O (io), E3 I/O (io), E8 I/O (io), E10 I/O (io), F1 I/O (io), F3 I/O (io), F10 I/O (io), G1 I/O (io), G3 I/O (io), G10 I/O (io), H1 I/O (io), H3 I/O (io), H5 I/O (io), H7 I/O (io), H8 I/O (io), H10 I/O (io), J1 I/O, GCK0 (io), K1 I/O, GCK1 (io), K2 I/O, GCK2 (io), K3 I/O (io), K4 I/O (io), K5 I/O (io), K6 I/O (io), K7 I/O (io), K8 I/O (io)
part B pins: A6 TDO, J10 TDI (in), K9 TMS (in), K10 TCK (in)
part C pins: C6 VCCIO (power), D3 VAUX (power), G8 VCC (power), H6 VCCIO (power)
part D pins: C7 GND (power), F8 GND (power), H4 GND (power)

## XC2C64-7CP56I
designator U?
CoolRunner-II, 1.8V, 64 Macrocell CPLD, 56-Ball CSP, Industrial Grade; ComponentAvailability: Discontinued After April 24 2006.; Published: 23-Sep-2002; LatestRevisionDate: 13-Apr-2006; LatestRevisionNote: IPC-7351 Footprint Added.; DatasheetVersion: ver3.0, Nov-2005; PackageVersion: ver1.2, Jun-2004; PackageReference: CP56; Publisher: Altium Limited; PackageDescription: 56-Ball Chip Scale Ball Grid Array 0.5 mm Pitch (CP56); ComponentLink1Description: Manufacturer Link; ComponentLink1URL: http://www.xilinx.com/products/silicon_solutions/cplds/coolrunner_series/coolrunner_ii_cplds/overview.htm; ComponentLink2Description: Datasheet; ComponentLink2URL: http://direct.xilinx.com/bvdocs/publications/ds092.pdf; ComponentLink3Description: Discontinuation Notice; ComponentLink3URL: http://www.xilinx.com/bvdocs/notifications/xcn05017.pdf
footprint CP56 (BGA, 56-Leads, Body 6x6mm, Pitch 0.5mm)
3D model XC2C64-CP56 (56-Ball Chip Scale Ball Grid Array 0.5 mm Pitch (CP56))
signal-integrity model XC2C64_CP56 (CoolRunner-II)
part A pins: A1 I/O (io), A2 I/O, GTS2 (io), A3 I/O, GTS3 (io), A4 I/O (io), A5 I/O (io), A7 I/O (io), A8 I/O (io), A9 I/O (io), A10 I/O (io), B1 I/O, GSR (io), B10 I/O (io), C1 I/O, GTS0 (io), C3 I/O (io), C4 I/O (io), C5 I/O (io), C8 I/O (io), C10 I/O (io), D1 I/O, GTS1 (io), D8 I/O (io), D10 I/O (io), E1 I/O (io), E3 I/O (io), E8 I/O (io), E10 I/O (io), F1 I/O (io), F3 I/O (io), F10 I/O (io), G1 I/O (io), G3 I/O (io), G10 I/O (io), H1 I/O (io), H3 I/O (io), H5 I/O (io), H7 I/O (io), H8 I/O (io), H10 I/O (io), J1 I/O, GCK0 (io), K1 I/O, GCK1 (io), K2 I/O, GCK2 (io), K3 I/O (io), K4 I/O (io), K5 I/O (io), K6 I/O (io), K7 I/O (io), K8 I/O (io)
part B pins: A6 TDO, J10 TDI (in), K9 TMS (in), K10 TCK (in)
part C pins: C6 VCCIO (power), D3 VAUX (power), G8 VCC (power), H6 VCCIO (power)
part D pins: C7 GND (power), F8 GND (power), H4 GND (power)

## XC2C64-7PC44C
designator U?
CoolRunner-II, 1.8V, 64 Macrocell CPLD, 44-Pin PLCC, Commercial Grade; ComponentAvailability: Discontinued After April 24 2006.; Published: 23-Sep-2002; LatestRevisionDate: 13-Apr-2006; LatestRevisionNote: IPC-7351 Footprint Added.; DatasheetVersion: ver3.0, Nov-2005; PackageVersion: ver1.2, Jun-2004; PackageReference: PC44; Publisher: Altium Limited; PackageDescription: 44-Pin Plastic Leaded Chip Carrier (PC44); Code_JEDEC: MS-047; Code_IPC: PLCC-44; ComponentLink1Description: Manufacturer Link; ComponentLink1URL: http://www.xilinx.com/products/silicon_solutions/cplds/coolrunner_series/coolrunner_ii_cplds/overview.htm; ComponentLink2Description: Datasheet; ComponentLink2URL: http://direct.xilinx.com/bvdocs/publications/ds092.pdf; ComponentLink3Description: Discontinuation Notice; ComponentLink3URL: http://www.xilinx.com/bvdocs/notifications/xcn05017.pdf
footprint PC44_N (Leaded Chip Carrier, 44-Leads, Body 16.6x16.6mm, Pitch 1.27mm, IPC Medium Density)
footprint PC44_L (Leaded Chip Carrier, 44-Leads, Body 16.6x16.6mm, Pitch 1.27mm, IPC High Density)
footprint PC44_M (Leaded Chip Carrier, 44-Leads, Body 16.6x16.6mm, Pitch 1.27mm, IPC Low Density)
3D model XC2C64-PC44 (44-Pin Plastic Leaded Chip Carrier (PC44))
signal-integrity model XC2C64_PC44 (CoolRunner-II)
part A pins: 1 I/O (io), 2 I/O (io), 3 I/O (io), 4 I/O (io), 5 I/O, GCK0 (io), 6 I/O, GCK1 (io), 7 I/O, GCK2 (io), 8 I/O (io), 9 I/O (io), 11 I/O (io), 12 I/O (io), 14 I/O (io), 18 I/O (io), 19 I/O (io), 20 I/O (io), 22 I/O (io), 24 I/O (io), 25 I/O (io), 26 I/O (io), 27 I/O (io), 28 I/O (io), 29 I/O (io), 33 I/O (io), 34 I/O (io), 35 I/O (io), 36 I/O, GSR (io), 37 I/O, GTS2 (io), 38 I/O, GTS3 (io), 39 I/O, GTS0 (io), 40 I/O, GTS1 (io), 42 I/O (io), 43 I/O (io), 44 I/O (io)
part B pins: 15 TDI (in), 16 TMS (in), 17 TCK (in), 30 TDO
part C pins: 13 VCCIO (power), 21 VCC (power), 32 VCCIO (power), 41 VAUX (power)
part D pins: 10 GND (power), 23 GND (power), 31 GND (power)

## XC2C64-7PC44I
designator U?
CoolRunner-II, 1.8V, 64 Macrocell CPLD, 44-Pin PLCC, Industrial Grade; ComponentAvailability: Discontinued After April 24 2006.; Published: 23-Sep-2002; LatestRevisionDate: 13-Apr-2006; LatestRevisionNote: IPC-7351 Footprint Added.; DatasheetVersion: ver3.0, Nov-2005; PackageVersion: ver1.2, Jun-2004; PackageReference: PC44; Publisher: Altium Limited; PackageDescription: 44-Pin Plastic Leaded Chip Carrier (PC44); Code_JEDEC: MS-047; Code_IPC: PLCC-44; ComponentLink1Description: Manufacturer Link; ComponentLink1URL: http://www.xilinx.com/products/silicon_solutions/cplds/coolrunner_series/coolrunner_ii_cplds/overview.htm; ComponentLink2Description: Datasheet; ComponentLink2URL: http://direct.xilinx.com/bvdocs/publications/ds092.pdf; ComponentLink3Description: Discontinuation Notice; ComponentLink3URL: http://www.xilinx.com/bvdocs/notifications/xcn05017.pdf
footprint PC44_N (Leaded Chip Carrier, 44-Leads, Body 16.6x16.6mm, Pitch 1.27mm, IPC Medium Density)
footprint PC44_L (Leaded Chip Carrier, 44-Leads, Body 16.6x16.6mm, Pitch 1.27mm, IPC High Density)
footprint PC44_M (Leaded Chip Carrier, 44-Leads, Body 16.6x16.6mm, Pitch 1.27mm, IPC Low Density)
3D model XC2C64-PC44 (44-Pin Plastic Leaded Chip Carrier (PC44))
signal-integrity model XC2C64_PC44 (CoolRunner-II)
part A pins: 1 I/O (io), 2 I/O (io), 3 I/O (io), 4 I/O (io), 5 I/O, GCK0 (io), 6 I/O, GCK1 (io), 7 I/O, GCK2 (io), 8 I/O (io), 9 I/O (io), 11 I/O (io), 12 I/O (io), 14 I/O (io), 18 I/O (io), 19 I/O (io), 20 I/O (io), 22 I/O (io), 24 I/O (io), 25 I/O (io), 26 I/O (io), 27 I/O (io), 28 I/O (io), 29 I/O (io), 33 I/O (io), 34 I/O (io), 35 I/O (io), 36 I/O, GSR (io), 37 I/O, GTS2 (io), 38 I/O, GTS3 (io), 39 I/O, GTS0 (io), 40 I/O, GTS1 (io), 42 I/O (io), 43 I/O (io), 44 I/O (io)
part B pins: 15 TDI (in), 16 TMS (in), 17 TCK (in), 30 TDO
part C pins: 13 VCCIO (power), 21 VCC (power), 32 VCCIO (power), 41 VAUX (power)
part D pins: 10 GND (power), 23 GND (power), 31 GND (power)

## XC2C64-7VQ44C
designator U?
CoolRunner-II, 1.8V, 64 Macrocell CPLD, 44-Pin VQFP, Commercial Grade; ComponentAvailability: Discontinued After April 24 2006.; Published: 23-Sep-2002; LatestRevisionDate: 13-Apr-2006; LatestRevisionNote: IPC-7351 Footprint Added.; DatasheetVersion: ver3.0, Nov-2005; PackageVersion: ver1.2, Jun-2004; PackageReference: VQ44; Publisher: Altium Limited; PackageDescription: 44-Pin Very Thin Quad Flat Pack (VQ44); Code_JEDEC: MS-026-ACB; ComponentLink1Description: Manufacturer Link; ComponentLink1URL: http://www.xilinx.com/products/silicon_solutions/cplds/coolrunner_series/coolrunner_ii_cplds/overview.htm; ComponentLink2Description: Datasheet; ComponentLink2URL: http://direct.xilinx.com/bvdocs/publications/ds092.pdf; ComponentLink3Description: Discontinuation Notice; ComponentLink3URL: http://www.xilinx.com/bvdocs/notifications/xcn05017.pdf
footprint VQ44_N (Thin QFP, 44-Leads, Body 10x10mm, Pitch 0.8mm, IPC Medium Density)
footprint VQ44_L (Thin QFP, 44-Leads, Body 10x10mm, Pitch 0.8mm, IPC High Density)
footprint VQ44_M (Thin QFP, 44-Leads, Body 10x10mm, Pitch 0.8mm, IPC Low Density)
3D model XC2C64-VQ44 (44-Pin Very Thin Quad Flat Pack (VQ44))
signal-integrity model XC2C64_VQ44 (CoolRunner-II)
part A pins: 1 I/O, GCK2 (io), 2 I/O (io), 3 I/O (io), 5 I/O (io), 6 I/O (io), 8 I/O (io), 12 I/O (io), 13 I/O (io), 14 I/O (io), 16 I/O (io), 18 I/O (io), 19 I/O (io), 20 I/O (io), 21 I/O (io), 22 I/O (io), 23 I/O (io), 27 I/O (io), 28 I/O (io), 29 I/O (io), 30 I/O, GSR (io), 31 I/O, GTS2 (io), 32 I/O, GTS3 (io), 33 I/O, GTS0 (io), 34 I/O, GTS1 (io), 36 I/O (io), 37 I/O (io), 38 I/O (io), 39 I/O (io), 40 I/O (io), 41 I/O (io), 42 I/O (io), 43 I/O, GCK0 (io), 44 I/O, GCK1 (io)
part B pins: 9 TDI (in), 10 TMS (in), 11 TCK (in), 24 TDO
part C pins: 7 VCCIO (power), 15 VCC (power), 26 VCCIO (power), 35 VAUX (power)
part D pins: 4 GND (power), 17 GND (power), 25 GND (power)

## XC2C64-7VQ44I
designator U?
CoolRunner-II, 1.8V, 64 Macrocell CPLD, 44-Pin VQFP, Industrial Grade; ComponentAvailability: Discontinued After April 24 2006.; Published: 23-Sep-2002; LatestRevisionDate: 13-Apr-2006; LatestRevisionNote: IPC-7351 Footprint Added.; DatasheetVersion: ver3.0, Nov-2005; PackageVersion: ver1.2, Jun-2004; PackageReference: VQ44; Publisher: Altium Limited; PackageDescription: 44-Pin Very Thin Quad Flat Pack (VQ44); Code_JEDEC: MS-026-ACB; ComponentLink1Description: Manufacturer Link; ComponentLink1URL: http://www.xilinx.com/products/silicon_solutions/cplds/coolrunner_series/coolrunner_ii_cplds/overview.htm; ComponentLink2Description: Datasheet; ComponentLink2URL: http://direct.xilinx.com/bvdocs/publications/ds092.pdf; ComponentLink3Description: Discontinuation Notice; ComponentLink3URL: http://www.xilinx.com/bvdocs/notifications/xcn05017.pdf
footprint VQ44_N (Thin QFP, 44-Leads, Body 10x10mm, Pitch 0.8mm, IPC Medium Density)
footprint VQ44_L (Thin QFP, 44-Leads, Body 10x10mm, Pitch 0.8mm, IPC High Density)
footprint VQ44_M (Thin QFP, 44-Leads, Body 10x10mm, Pitch 0.8mm, IPC Low Density)
3D model XC2C64-VQ44 (44-Pin Very Thin Quad Flat Pack (VQ44))
signal-integrity model XC2C64_VQ44 (CoolRunner-II)
part A pins: 1 I/O, GCK2 (io), 2 I/O (io), 3 I/O (io), 5 I/O (io), 6 I/O (io), 8 I/O (io), 12 I/O (io), 13 I/O (io), 14 I/O (io), 16 I/O (io), 18 I/O (io), 19 I/O (io), 20 I/O (io), 21 I/O (io), 22 I/O (io), 23 I/O (io), 27 I/O (io), 28 I/O (io), 29 I/O (io), 30 I/O, GSR (io), 31 I/O, GTS2 (io), 32 I/O, GTS3 (io), 33 I/O, GTS0 (io), 34 I/O, GTS1 (io), 36 I/O (io), 37 I/O (io), 38 I/O (io), 39 I/O (io), 40 I/O (io), 41 I/O (io), 42 I/O (io), 43 I/O, GCK0 (io), 44 I/O, GCK1 (io)
part B pins: 9 TDI (in), 10 TMS (in), 11 TCK (in), 24 TDO
part C pins: 7 VCCIO (power), 15 VCC (power), 26 VCCIO (power), 35 VAUX (power)
part D pins: 4 GND (power), 17 GND (power), 25 GND (power)

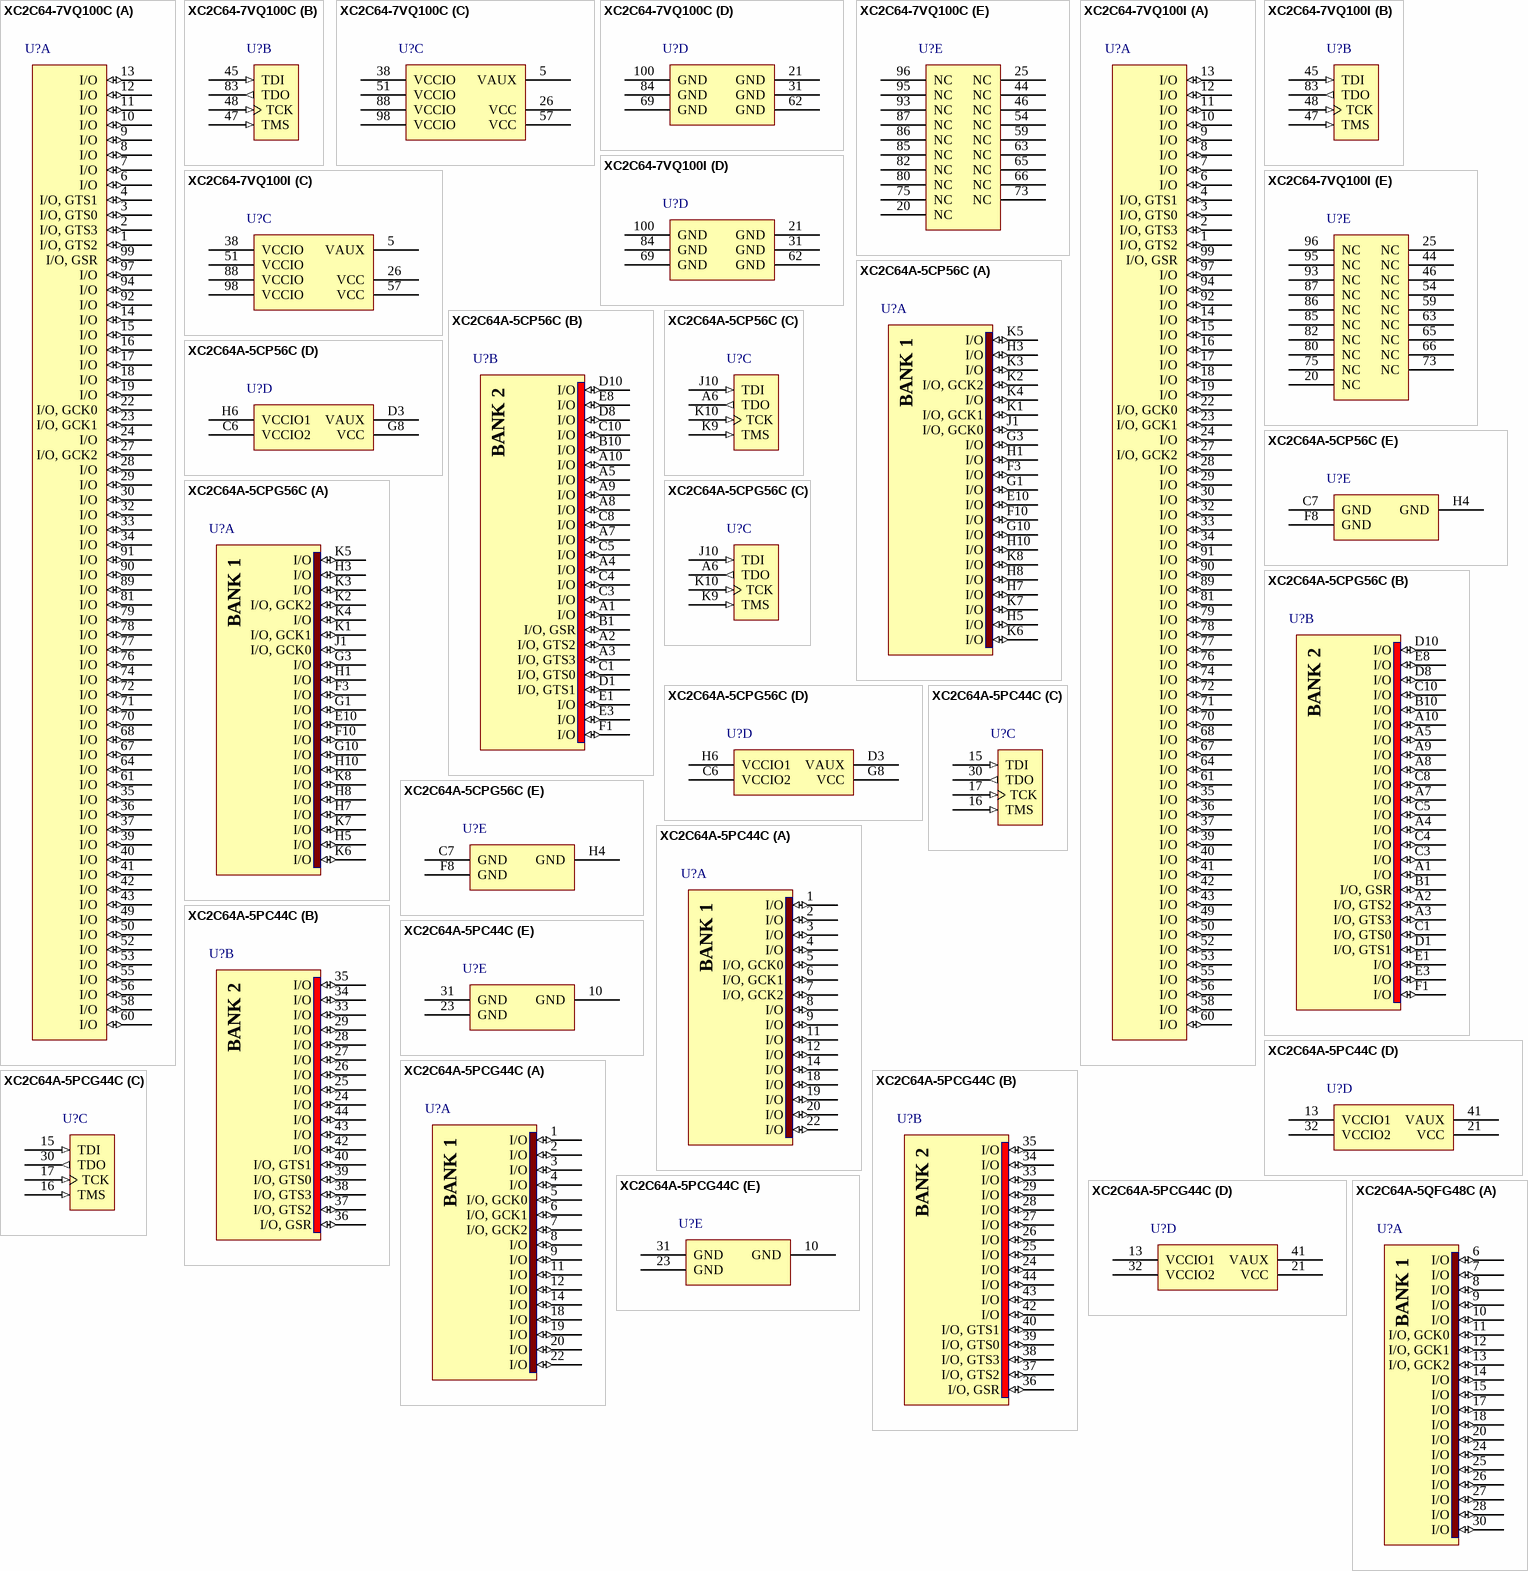
[diagram p7: symbols XC2C64-7VQ100C to XC2C64A-5QFG48C]

## XC2C64-7VQ100C
designator U?
CoolRunner-II, 1.8V, 64 Macrocell CPLD, 100-Pin VQFP, Commercial Grade; ComponentAvailability: Discontinued After April 24 2006.; Published: 23-Sep-2002; LatestRevisionDate: 13-Apr-2006; LatestRevisionNote: IPC-7351 Footprint Added.; DatasheetVersion: ver3.0, Nov-2005; PackageVersion: ver1.2.1, Feb-2007; PackageReference: VQ100; Publisher: Altium Limited; PackageDescription: 100-Pin Very Thin Quad Flat Pack (VQ100); Code_JEDEC: MS-026-AED; ComponentLink1Description: Manufacturer Link; ComponentLink1URL: http://www.xilinx.com/products/silicon_solutions/cplds/coolrunner_series/coolrunner_ii_cplds/overview.htm; ComponentLink2Description: Datasheet; ComponentLink2URL: http://direct.xilinx.com/bvdocs/publications/ds092.pdf; ComponentLink3Description: Discontinuation Notice; ComponentLink3URL: http://www.xilinx.com/bvdocs/notifications/xcn05017.pdf
footprint VQ100_N (Thin QFP, 100-Leads, Body 14x14mm, Pitch 0.5mm, IPC Medium Density)
footprint VQ100_L (Thin QFP, 100-Leads, Body 14x14mm, Pitch 0.5mm, IPC High Density)
footprint VQ100_M (Thin QFP, 100-Leads, Body 14x14mm, Pitch 0.5mm, IPC Low Density)
3D model XC2C64-VQ100 (100-Pin Very Thin Quad Flat Pack (VQ100))
signal-integrity model XC2C64_VQ100 (CoolRunner-II)
part A pins: 1 I/O, GTS2 (io), 2 I/O, GTS3 (io), 3 I/O, GTS0 (io), 4 I/O, GTS1 (io), 6 I/O (io), 7 I/O (io), 8 I/O (io), 9 I/O (io), 10 I/O (io), 11 I/O (io), 12 I/O (io), 13 I/O (io), 14 I/O (io), 15 I/O (io), 16 I/O (io), 17 I/O (io), 18 I/O (io), 19 I/O (io), 22 I/O, GCK0 (io), 23 I/O, GCK1 (io), 24 I/O (io), 27 I/O, GCK2 (io), 28 I/O (io), 29 I/O (io), 30 I/O (io), 32 I/O (io), 33 I/O (io), 34 I/O (io), 35 I/O (io), 36 I/O (io), 37 I/O (io), 39 I/O (io), 40 I/O (io), 41 I/O (io), 42 I/O (io), 43 I/O (io), 49 I/O (io), 50 I/O (io), 52 I/O (io), 53 I/O (io), 55 I/O (io), 56 I/O (io), 58 I/O (io), 60 I/O (io), 61 I/O (io), 64 I/O (io), 67 I/O (io), 68 I/O (io), 70 I/O (io), 71 I/O (io), 72 I/O (io), 74 I/O (io), 76 I/O (io), 77 I/O (io), 78 I/O (io), 79 I/O (io), 81 I/O (io), 89 I/O (io), 90 I/O (io), 91 I/O (io), 92 I/O (io), 94 I/O (io), 97 I/O (io), 99 I/O, GSR (io)
part B pins: 45 TDI (in), 47 TMS (in), 48 TCK (in), 83 TDO (out)
part C pins: 5 VAUX (power), 26 VCC (power), 38 VCCIO (power), 51 VCCIO (power), 57 VCC (power), 88 VCCIO (power), 98 VCCIO (power)
part D pins: 21 GND (power), 31 GND (power), 62 GND (power), 69 GND (power), 84 GND (power), 100 GND (power)
part E pins: 20 NC, 25 NC, 44 NC, 46 NC, 54 NC, 59 NC, 63 NC, 65 NC, 66 NC, 73 NC, 75 NC, 80 NC, 82 NC, 85 NC, 86 NC, 87 NC, 93 NC, 95 NC, 96 NC

## XC2C64-7VQ100I
designator U?
CoolRunner-II, 1.8V, 64 Macrocell CPLD, 100-Pin VQFP, Industrial Grade; ComponentAvailability: Discontinued After April 24 2006.; Published: 23-Sep-2002; LatestRevisionDate: 13-Apr-2006; LatestRevisionNote: IPC-7351 Footprint Added.; DatasheetVersion: ver3.0, Nov-2005; PackageVersion: ver1.2.1, Feb-2007; PackageReference: VQ100; Publisher: Altium Limited; PackageDescription: 100-Pin Very Thin Quad Flat Pack (VQ100); Code_JEDEC: MS-026-AED; ComponentLink1Description: Manufacturer Link; ComponentLink1URL: http://www.xilinx.com/products/silicon_solutions/cplds/coolrunner_series/coolrunner_ii_cplds/overview.htm; ComponentLink2Description: Datasheet; ComponentLink2URL: http://direct.xilinx.com/bvdocs/publications/ds092.pdf; ComponentLink3Description: Discontinuation Notice; ComponentLink3URL: http://www.xilinx.com/bvdocs/notifications/xcn05017.pdf
footprint VQ100_N (Thin QFP, 100-Leads, Body 14x14mm, Pitch 0.5mm, IPC Medium Density)
footprint VQ100_L (Thin QFP, 100-Leads, Body 14x14mm, Pitch 0.5mm, IPC High Density)
footprint VQ100_M (Thin QFP, 100-Leads, Body 14x14mm, Pitch 0.5mm, IPC Low Density)
3D model XC2C64-VQ100 (100-Pin Very Thin Quad Flat Pack (VQ100))
signal-integrity model XC2C64_VQ100 (CoolRunner-II)
part A pins: 1 I/O, GTS2 (io), 2 I/O, GTS3 (io), 3 I/O, GTS0 (io), 4 I/O, GTS1 (io), 6 I/O (io), 7 I/O (io), 8 I/O (io), 9 I/O (io), 10 I/O (io), 11 I/O (io), 12 I/O (io), 13 I/O (io), 14 I/O (io), 15 I/O (io), 16 I/O (io), 17 I/O (io), 18 I/O (io), 19 I/O (io), 22 I/O, GCK0 (io), 23 I/O, GCK1 (io), 24 I/O (io), 27 I/O, GCK2 (io), 28 I/O (io), 29 I/O (io), 30 I/O (io), 32 I/O (io), 33 I/O (io), 34 I/O (io), 35 I/O (io), 36 I/O (io), 37 I/O (io), 39 I/O (io), 40 I/O (io), 41 I/O (io), 42 I/O (io), 43 I/O (io), 49 I/O (io), 50 I/O (io), 52 I/O (io), 53 I/O (io), 55 I/O (io), 56 I/O (io), 58 I/O (io), 60 I/O (io), 61 I/O (io), 64 I/O (io), 67 I/O (io), 68 I/O (io), 70 I/O (io), 71 I/O (io), 72 I/O (io), 74 I/O (io), 76 I/O (io), 77 I/O (io), 78 I/O (io), 79 I/O (io), 81 I/O (io), 89 I/O (io), 90 I/O (io), 91 I/O (io), 92 I/O (io), 94 I/O (io), 97 I/O (io), 99 I/O, GSR (io)
part B pins: 45 TDI (in), 47 TMS (in), 48 TCK (in), 83 TDO (out)
part C pins: 5 VAUX (power), 26 VCC (power), 38 VCCIO (power), 51 VCCIO (power), 57 VCC (power), 88 VCCIO (power), 98 VCCIO (power)
part D pins: 21 GND (power), 31 GND (power), 62 GND (power), 69 GND (power), 84 GND (power), 100 GND (power)
part E pins: 20 NC, 25 NC, 44 NC, 46 NC, 54 NC, 59 NC, 63 NC, 65 NC, 66 NC, 73 NC, 75 NC, 80 NC, 82 NC, 85 NC, 86 NC, 87 NC, 93 NC, 95 NC, 96 NC

## XC2C64A-5CP56C
designator U?
CoolRunner-II, 1.8V, 64 Macrocell CPLD, 56-Ball CSP, Commercial Grade; Published: 4-Mar-2005; LatestRevisionDate: 13-Apr-2006; LatestRevisionNote: IPC-7351 Footprint Added.; DatasheetVersion: ver2.2, Mar-2007; PackageVersion: ver1.2, Jun-2004; PackageReference: CP56; Publisher: Altium Limited; PackageDescription: 56-Ball Chip Scale Ball Grid Array 0.5 mm Pitch (CP56); ComponentLink1Description: Manufacturer Link; ComponentLink1URL: http://www.xilinx.com/products/silicon_solutions/cplds/coolrunner_series/coolrunner_ii_cplds/overview.htm; ComponentLink2Description: Datasheet; ComponentLink2URL: http://direct.xilinx.com/bvdocs/publications/ds311.pdf
footprint CP56 (BGA, 56-Leads, Body 6x6mm, Pitch 0.5mm)
3D model XC2C64A-CP56 (56-Ball Chip Scale Ball Grid Array 0.5 mm Pitch (CP56))
signal-integrity model XC2C64_CP56 (CoolRunner-II)
part A pins: E10 I/O (io), F3 I/O (io), F10 I/O (io), G1 I/O (io), G3 I/O (io), G10 I/O (io), H1 I/O (io), H3 I/O (io), H5 I/O (io), H7 I/O (io), H8 I/O (io), H10 I/O (io), J1 I/O, GCK0 (io), K1 I/O, GCK1 (io), K2 I/O, GCK2 (io), K3 I/O (io), K4 I/O (io), K5 I/O (io), K6 I/O (io), K7 I/O (io), K8 I/O (io)
part B pins: A1 I/O (io), A2 I/O, GTS2 (io), A3 I/O, GTS3 (io), A4 I/O (io), A5 I/O (io), A7 I/O (io), A8 I/O (io), A9 I/O (io), A10 I/O (io), B1 I/O, GSR (io), B10 I/O (io), C1 I/O, GTS0 (io), C3 I/O (io), C4 I/O (io), C5 I/O (io), C8 I/O (io), C10 I/O (io), D1 I/O, GTS1 (io), D8 I/O (io), D10 I/O (io), E1 I/O (io), E3 I/O (io), E8 I/O (io), F1 I/O (io)
part C pins: A6 TDO (out), J10 TDI (in), K9 TMS (in), K10 TCK (in)
part D pins: C6 VCCIO2 (power), D3 VAUX (power), G8 VCC (power), H6 VCCIO1 (power)
part E pins: C7 GND (power), F8 GND (power), H4 GND (power)
part A text: BANK 1
part B text: BANK 2

## XC2C64A-5CPG56C
designator U?
CoolRunner-II, 1.8V, 64 Macrocell CPLD, 56-Ball CSP, Pb-Free, Commercial Grade; Published: 4-Mar-2005; LatestRevisionDate: 13-Apr-2006; LatestRevisionNote: IPC-7351 Footprint Added.; DatasheetVersion: ver2.2, Mar-2007; PackageVersion: ver1.2, Jun-2004; PackageReference: CPG56; Publisher: Altium Limited; PackageDescription: 56-Ball Chip Scale Ball Grid Array 0.5 mm Pitch (CPG56) - Pb-Free; ComponentLink1Description: Manufacturer Link; ComponentLink1URL: http://www.xilinx.com/products/silicon_solutions/cplds/coolrunner_series/coolrunner_ii_cplds/overview.htm; ComponentLink2Description: Datasheet; ComponentLink2URL: http://direct.xilinx.com/bvdocs/publications/ds311.pdf
footprint CPG56 (BGA, 56-Leads, Body 6x6mm, Pitch 0.5mm)
3D model XC2C64A-CP56 (56-Ball Chip Scale Ball Grid Array 0.5 mm Pitch (CPG56) - Pb-Free)
signal-integrity model XC2C64_CP56 (CoolRunner-II)
part A pins: E10 I/O (io), F3 I/O (io), F10 I/O (io), G1 I/O (io), G3 I/O (io), G10 I/O (io), H1 I/O (io), H3 I/O (io), H5 I/O (io), H7 I/O (io), H8 I/O (io), H10 I/O (io), J1 I/O, GCK0 (io), K1 I/O, GCK1 (io), K2 I/O, GCK2 (io), K3 I/O (io), K4 I/O (io), K5 I/O (io), K6 I/O (io), K7 I/O (io), K8 I/O (io)
part B pins: A1 I/O (io), A2 I/O, GTS2 (io), A3 I/O, GTS3 (io), A4 I/O (io), A5 I/O (io), A7 I/O (io), A8 I/O (io), A9 I/O (io), A10 I/O (io), B1 I/O, GSR (io), B10 I/O (io), C1 I/O, GTS0 (io), C3 I/O (io), C4 I/O (io), C5 I/O (io), C8 I/O (io), C10 I/O (io), D1 I/O, GTS1 (io), D8 I/O (io), D10 I/O (io), E1 I/O (io), E3 I/O (io), E8 I/O (io), F1 I/O (io)
part C pins: A6 TDO (out), J10 TDI (in), K9 TMS (in), K10 TCK (in)
part D pins: C6 VCCIO2 (power), D3 VAUX (power), G8 VCC (power), H6 VCCIO1 (power)
part E pins: C7 GND (power), F8 GND (power), H4 GND (power)
part A text: BANK 1
part B text: BANK 2